# Altium footprint library IND WE-LHCA 1365.PcbLib: 1 footprints
Each footprint in its own frame and in the unit in brackets; x right, y up, seen from the top. Pads: shape width x height; smd on the part's side, far side on the other; paste and mask are expansions set on the pad; w line width, h text height; cw(c..) or ccw(c..) is an arc to the next point about the centre after c.
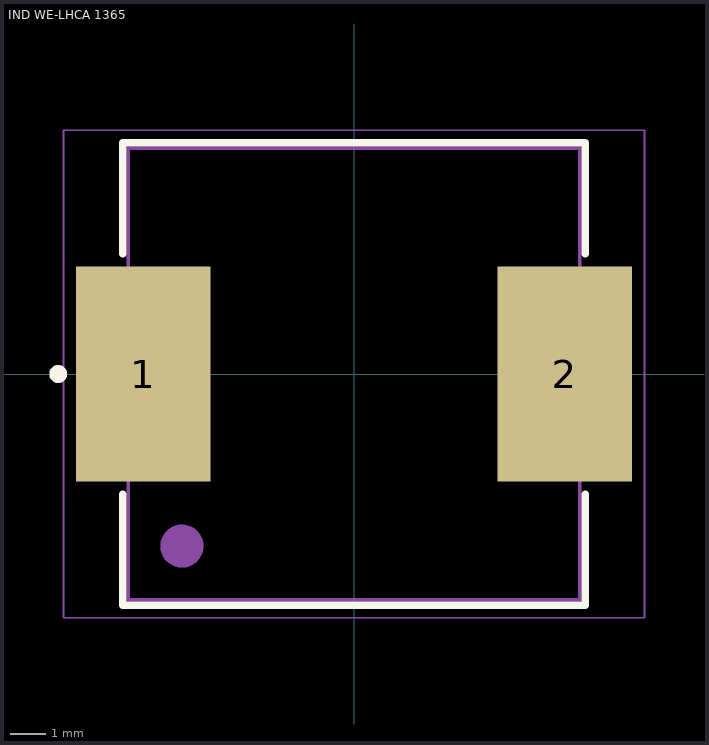
[diagram p0: the footprint, top view; thin cyan lines are the x and y axes]

## IND WE-LHCA 1365 [mm] "SMD Power Inductor, 2-Leads, body 13.45 x 12.60 mm"
height 6.3
pads (2):
  rect 3.75x6 smd: 1(-5.875,0) 2(5.875,0)
Top Overlay:
  circle w0.25: c-8.25,0 r0.125
  lines w0.2: -6.45,-3.35 -6.45,-6.45 6.45,-6.45 6.45,-3.35 ; -6.45,3.35 -6.45,6.45 6.45,6.45 6.45,3.35
Top Assembly:
  circle w0.6: c-4.8,-4.8 r0.3
  lines w0.1: -6.3,-6.3 -6.3,6.3 6.3,6.3 6.3,-6.3 -6.3,-6.3
Top Courtyard:
  lines w0.05: -8.1,-6.8 -8.1,6.8 8.1,6.8 8.1,-6.8 -8.1,-6.8
Top Designator:
  text ".Designator" at -7.498,-0.5 h1.5
3D body "784373865xxx.stp": height 6.46, standoff 0, extent -6.725,-6.3 6.725,6.3